# Altium footprint library lm1117_10.PCBLIB: 6 footprints
Each footprint in its own frame and in the unit in brackets; x right, y up, seen from the top. Pads: shape width x height; smd on the part's side, far side on the other; paste and mask are expansions set on the pad; w line width, h text height; cw(c..) or ccw(c..) is an arc to the next point about the centre after c.
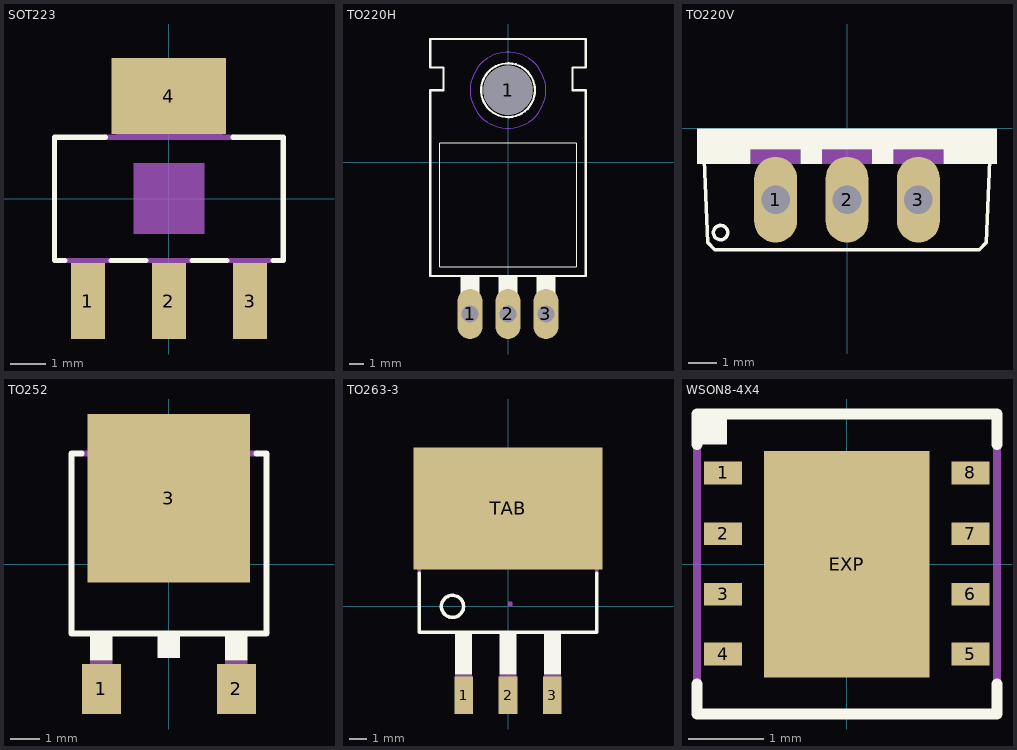
[diagram p0: the footprints below, top view; thin cyan lines are the x and y axes]

## SOT223 [mil]
pads (4):
  rect 38x85 smd: 1(-90.55,-114.17) 2(0,-114.17) 3(91,-114.17)
  rect 128x85 smd: 4(0,115)
Top Overlay:
  lines w6: -116.54,-68.9 -127.95,-68.9 -127.95,69 -71.26,69 ; -64.57,-68.9 -25.98,-68.9 ; 26,-68.9 65,-68.9 ; 72,69 128,69 128,-68.9 117,-68.9
Mechanical 6:
  rectangle: -39.37,-39.37 40,40
Mechanical 16:
  rectangle: -13.78,-137.8 14,-68.9
  rectangle: -104.33,-137.8 -76.77,-68.9
  rectangle: -59.06,69 60,138
  rectangle: 77,-137.8 105,-68.9
  lines w6: -116.54,-68.9 -64.57,-68.9 ; -71.26,69 72,69 ; -25.98,-68.9 26,-68.9 ; 65,-68.9 117,-68.9

## TO220H [mil]
pads (4):
  oval 66x132 hole 44: 1(-100,-400) 2(0,-400) 3(100,-400)
  round 130 hole 130: 1(0,190)
Bottom Layer keep-out:
  circle w0: c0,190 r100
Top Overlay:
  circle w6: c0,190 r71
  rectangle: 85,-435 115,-410
  rectangle: -15,-435 15,-410
  rectangle: -115,-435 -85,-410
  rectangle: -125,-410 -75,-300
  rectangle: -25,-410 25,-300
  rectangle: 75,-410 125,-300
  lines w2: -180,-275 180,-275 180,50 -180,50 -180,-275
  lines w6: -205,-300 205,-300 205,190 170,190 170,250 205,250 205,325 -205,325 -205,250 -170,250 -170,190 -205,190 -205,-300
Via Holes:
  circle w0: c0,190 r100

## TO220V [mil]
pads (3):
  oval 60x120 hole 40: 1(-100,-100) 2(0,-100) 3(100,-100)
Top Overlay:
  circle w5: c-177,-146 r10
  rectangle: -210,-30 210,0
  rectangle: -210,-50 -135,-30
  rectangle: -65,-50 -35,-30
  rectangle: 35,-50 65,-30
  rectangle: 135,-50 210,-30
  lines w5: -200,-45 -195,-160 -185,-170 185,-170 195,-160 200,-45
Mechanical 16:
  rectangle: -135,-50 -65,-30
  rectangle: -35,-50 35,-30
  rectangle: 65,-50 135,-30
  text "1" at -125,-125 h77.5
  text "2" at -25,-125 h77.5
  text "3" at 75,-125 h77.5

## TO252 [mil]
pads (3):
  rect 52x67 smd: 1(-89.96,-166.14) 2(90,-166.14)
  rect 217x225 smd: 3(0,88)
Top Overlay:
  rectangle: -14.96,-125 15,-92.32
  rectangle: -104.92,-128.15 -75,-92.32
  rectangle: 75,-128.15 105,-92.32
  lines w8: -116.54,148 -129.53,148 -129.53,-92.32 130,-92.32 130,148 117,148
Mechanical 16:
  rectangle: -104.92,-195.08 -75,-128.15
  rectangle: 75,-195.08 105,-128.15
  region: 0,0 10,0 10,10 0,10
  lines w8: -116.54,148 117,148

## TO263-3 [mil]
pads (4):
  rect 42x85 smd: 1(-100,-200) 2(0,-200) 3(100,-200)
  rect 425x275 smd: TAB(0,221)
Top Overlay:
  circle w8: c-125,0 r25
  rectangle: -19,-153 19,-58
  rectangle: -119,-153 -81,-58
  rectangle: 81,-153 119,-58
  lines w8: -200,75 -200,-58 200,-58 200,75
Mechanical 16:
  rectangle: -19,-233 19,-153
  rectangle: -119,-233 -81,-153
  rectangle: 81,-233 119,-153
  region: 0,0 10,0 10,10 0,10
  lines w8: -200,75 -200,283 200,283 200,75

## WSON8-4X4 [mil]
pads (9):
  rect 20x12 smd: 1(-64.96,48) 2(-64.96,16) 3(-64.96,-15.75) 4(-64.96,-47.24) 5(65,-47.24) 6(65,-15.75) 7(65,16) 8(65,48)
  rect 87x119 smd: EXP(0,0)
Top Overlay:
  rectangle: -78.74,63 -62.99,79
  lines w6: -78.74,-62.99 -78.74,-78.74 79,-78.74 79,-62.99 ; -78.74,63 -78.74,79 79,79 79,63
Top Paste:
  rectangle: -35.43,-51.18 36,52
  rectangle: 57,43 74,53
  rectangle: 57,11 74,21
  rectangle: 57,-20.67 74,-10.83
  rectangle: 57,-52.17 74,-42.32
  rectangle: -73.82,-52.17 -56.1,-42.32
  rectangle: -73.82,43 -56.1,53
  rectangle: -73.82,11 -56.1,21
  rectangle: -73.82,-20.67 -56.1,-10.83
Top Solder:
  rectangle: -45.28,-61.02 46,62
  rectangle: -76.77,-55.12 -53.15,-39.37
  rectangle: 54,40 77,56
  rectangle: 54,8 77,24
  rectangle: 54,-23.62 77,-7.87
  rectangle: -76.77,40 -53.15,56
  rectangle: -76.77,8 -53.15,24
  rectangle: -76.77,-23.62 -53.15,-7.87
  rectangle: 54,-55.12 77,-39.37
Mechanical 16:
  lines w4: -78.74,-78.74 -78.74,79 79,79 79,-78.74 -78.74,-78.74